# EAGLE library part CO (library air_quality_parts)
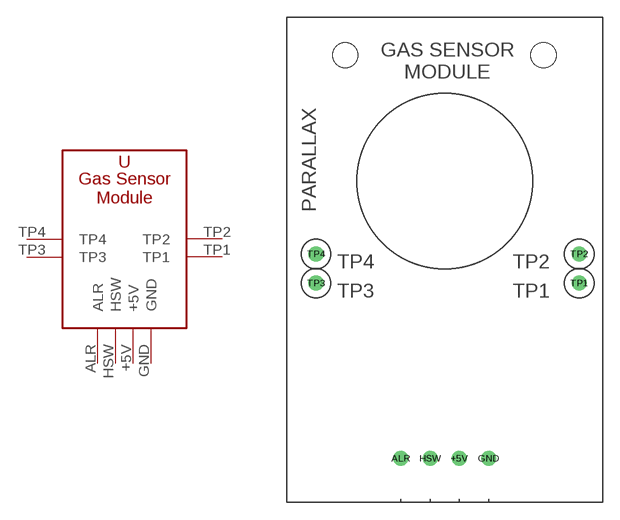
[diagram p5: symbol with the pads of GSM_PARALLAX; footprint GSM_PARALLAX]

Designator prefix -

## CO  [GSM_PARALLAX]
+5V  +5V  pwr
ALR  ALR
GND  GND  pwr
HSW  HSW
TP1  TP1  out
TP2  TP2  out
TP3  TP3  out
TP4  TP4  out

## Footprint GSM_PARALLAX (pad centres in mm)
drill 0.8: +5V 14.986,3.81; ALR 9.906,3.81; GND 17.526,3.81; HSW 12.446,3.81; TP1 25.4,19.05; TP2 25.4,21.59; TP3 2.54,19.05; TP4 2.54,21.59
hole 2.2 at 5.08,38.862
hole 2.2 at 22.301,38.862